# EAGLE library part CON-USB (library wolff-den)
Conn.; Data; USB; Recept.; Micro; B Type; Bottom Mount, SMT, with Solder Tabs, Lead-Free
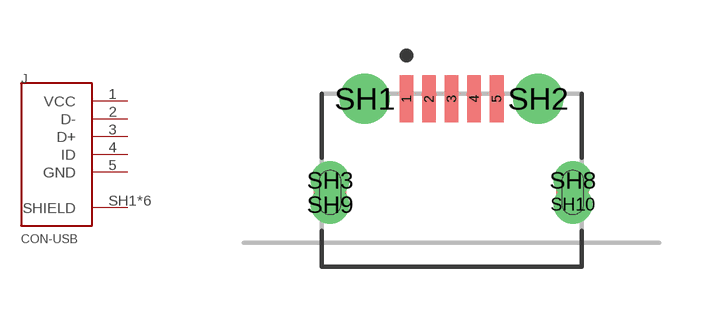
[diagram p4: symbol with the pads of MOLEX_1050170001-NO-PAD; footprint MOLEX_1050170001-NO-PAD]

Designator prefix J

## CON-USB-1050170001 (AVAILABILITY: Unavailable; DESC: CONN RCPT USB2.0 MICRO B SMD R/A; DIGIKEYPN: WM1399CT-ND; MF: Molex, LLC; MPN: 1050170001; PACKAGE: None; PRICE: None)  [MOLEX_1050170001-NO-PAD]
1  VCC  pas
2  D-  pas
3  D+  pas
4  ID  pas
5  GND  pas
SH1  SHIELD  pas
SH2  SHIELD  pas
SH3  SHIELD  pas
SH8  SHIELD  pas
SH9  SHIELD  pas
SH10  SHIELD  pas

## Footprint MOLEX_1050170001-NO-PAD (pad centres in mm)
smd 0.4 x 1.35: 1 -1.3,2.35; 2 -0.65,2.35; 3 0,2.35; 4 0.65,2.35; 5 1.3,2.35
drill 0.85 pad 1.45: SH1 -2.5,2.35; SH2 2.5,2.35
drill 0.6 pad 0.95: SH3 -3.5,0; SH8 3.5,0; SH9 -3.5,-0.7; SH10 3.5,-0.7